# EAGLE library part WIRL-PRO2_2606031121000 (library WIRL)
Thalassa - Radio Modules 2.4 GHz WIRL-PRO2 Radio module 2.4 GHz with RF pad Details see: https://we-online.de/katalog/en/article/2606031121000/
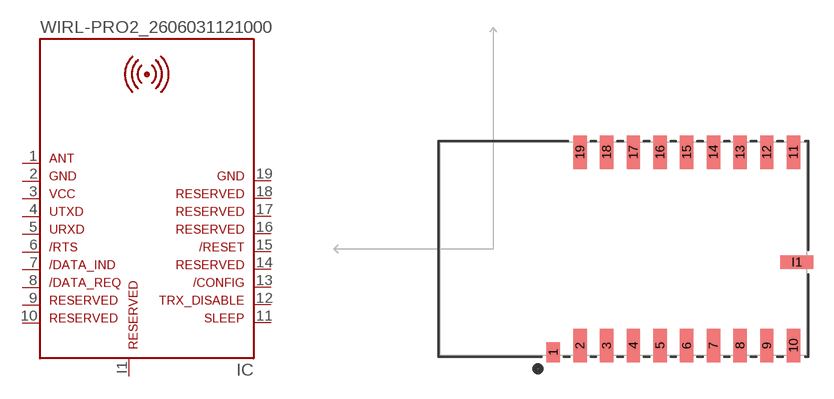
[diagram p40: symbol with the pads of WIRL-PRO2_2606031121000; footprint WIRL-PRO2_2606031121000]

Designator prefix IC

## WIRL-PRO2_2606031121000 (DATASHEET: https://www.we-online.com/redexpert/spec/2606031121000?ae; HEIGHT: 3.2mm; MANUFACTURER: Würth Elektronik; MOUNT: SMT; PART-NUMBER: 2606031121000; PREFIX: IC; VALUE: 2606031121000)  [WIRL-PRO2_2606031121000]
1  1  pas
2  2  pas
3  3  pas
4  4  out
5  5  in
6  6  out
7  7  out
8  8  in
9  9  pas
10  10  pas
11  11  in
12  12  in
13  13  in
14  14  pas
15  15  in
16  16  pas
17  17  pas
18  18  pas
19  19  pas
I1  I1  pas

## Footprint WIRL-PRO2_2606031121000 (pad centres in mm)
Thalassa - Radio Modules 2.4 GHz WIRL-PRO2 Radio module 2.4 GHz with RF pad
smd 1 x 1.5: 1 -5.25,-7.75
smd 1 x 2.5: 2 -3.25,-7.25; 3 -1.25,-7.25; 4 0.75,-7.25; 5 2.75,-7.25; 6 4.75,-7.25; 7 6.75,-7.25; 8 8.75,-7.25; 9 10.75,-7.25; 10 12.75,-7.25; 11 12.75,7.25; 12 10.75,7.25; 13 8.75,7.25; 14 6.75,7.25; 15 4.75,7.25; 16 2.75,7.25; 17 0.75,7.25; 18 -1.25,7.25; 19 -3.25,7.25
smd 2.5 x 1: I1 13,-1